# Altium schematic symbol library TLP521.SchLib: 1 symbol
Pins are listed as number, name and electrical type; pins without a type are passive.

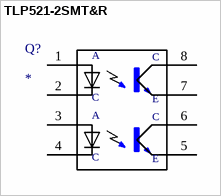
[diagram p0: symbol TLP521-2SMT&R]

## TLP521-2SMT&R
designator Q?
Phototransistor; Manufacturer_Name: Isocom; Manufacturer_Part_Number: TLP521-2SMT&R; Datasheet Link: https://docs-emea.rs-online.com/webdocs/1617/0900766b81617ec2.pdf; Height: 4.6mm; RS Part Number: 1611149; RS Price/Stock: http://uk.rs-online.com/web/p/products/1611149
footprint SOP254P1016X460-8N
pins: 1 A_1, 2 K_1, 3 A_2, 4 K_2, 5 E_1, 6 C_1, 7 E_2, 8 C_2
text: A; C; E